# EAGLE library part FFC2B35-08-T (library dpx-con-CUSTOM)
FFC & FPC Connectors .5mm SideEntry Flat Flex Cbl Conn 8P Sn Source: Datasheet <https://gct.co/files/drawings/ffc2b35.pdf?v=702331c0-0666-4ff5-9814-bf565fb9ce8b>
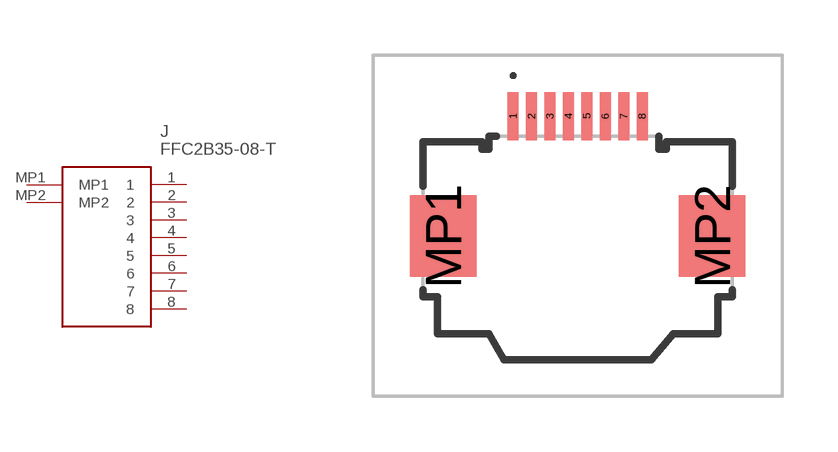
[diagram p14: symbol with the pads of FFC2B3508T; footprint FFC2B3508T]

Designator prefix J

## FFC2B35-08-T (DESCRIPTION: FFC & FPC Connectors .5mm SideEntry Flat Flex Cbl Conn 8P Sn; HEIGHT: 2.2mm; MANUFACTURER_NAME: GCT (GLOBAL CONNECTOR TECHNOLOGY); MANUFACTURER_PART_NUMBER: FFC2B35-08-T; MOUSER_PART_NUMBER: 640-FFC2B35-08-T; MOUSER_PRICE-STOCK: https://www.mouser.co.uk/ProductDetail/GCT/FFC2B35-08-T?qs=Li%252BoUPsLEnvRJsjyuyMLoQ%3D%3D)  [FFC2B3508T]
1  1
2  2
3  3
4  4
5  5
6  6
7  7
8  8
MP1  MP1
MP2  MP2

## Footprint FFC2B3508T (pad centres in mm)
FFC2B35-08-T-2
smd 0.3 x 1.3: 1 -1.75,3.3; 2 -1.25,3.3; 3 -0.75,3.3; 4 -0.25,3.3; 5 0.25,3.3; 6 0.75,3.3; 7 1.25,3.3; 8 1.75,3.3
smd 1.8 x 2.2: MP1 -3.65,0.05; MP2 3.65,0.05